# Altium footprint library Library.PcbLib: 1 footprints
Each footprint in its own frame and in the unit in brackets; x right, y up, seen from the top. Pads: shape width x height; smd on the part's side, far side on the other; paste and mask are expansions set on the pad; w line width, h text height; cw(c..) or ccw(c..) is an arc to the next point about the centre after c.
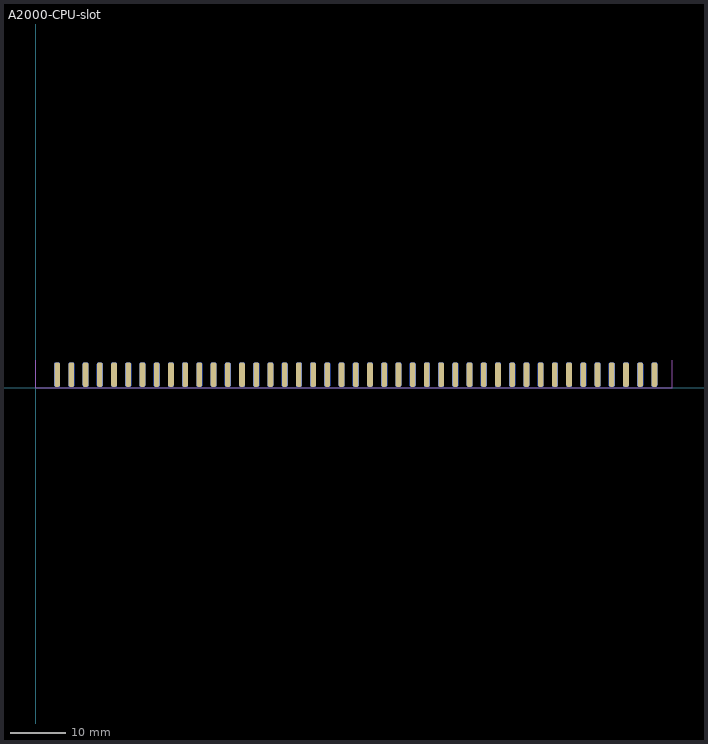
[diagram p0: the footprint, top view; thin cyan lines are the x and y axes]

## A2000-CPU-slot [mil] "edge connector for A2000 coprocessor card"
pads (86):
  rrect60% 40x170 smd: 1(150,90) 3(250,90) 5(350,90) 7(450,90) 9(550,90) 11(650,90) 13(750,90) 15(850,90) 17(950,90) 19(1050,90) 21(1150,90) 23(1250,90) 25(1350,90) 27(1450,90) 29(1550,90) 31(1650,90) 33(1750,90) 35(1850,90) 37(1950,90) 39(2050,90) 41(2150,90) 43(2250,90) 45(2350,90) 47(2450,90) 49(2550,90) 51(2650,90) 53(2750,90) 55(2850,90) 57(2950,90) 59(3050,90) 61(3150,90) 63(3250,90) 65(3350,90) 67(3450,90) 69(3550,90) 71(3650,90) 73(3750,90) 75(3850,90) 77(3950,90) 79(4050,90) 81(4150,90) 83(4250,90) 85(4350,90)
  rrect60% 40x170 smd far side: 2(150,90) 4(250,90) 6(350,90) 8(450,90) 10(550,90) 12(650,90) 14(750,90) 16(850,90) 18(950,90) 20(1050,90) 22(1150,90) 24(1250,90) 26(1350,90) 28(1450,90) 30(1550,90) 32(1650,90) 34(1750,90) 36(1850,90) 38(1950,90) 40(2050,90) 42(2150,90) 44(2250,90) 46(2350,90) 48(2450,90) 50(2550,90) 52(2650,90) 54(2750,90) 56(2850,90) 58(2950,90) 60(3050,90) 62(3150,90) 64(3250,90) 66(3350,90) 68(3450,90) 70(3550,90) 72(3650,90) 74(3750,90) 76(3850,90) 78(3950,90) 80(4050,90) 82(4150,90) 84(4250,90) 86(4350,90)
Board Edge:
  lines w6: 0,190 0,0 4475,0 4475,190